# EAGLE library part TPA6135A2RTET (library 25cmsquare)
Stereo Headphone Amplifier
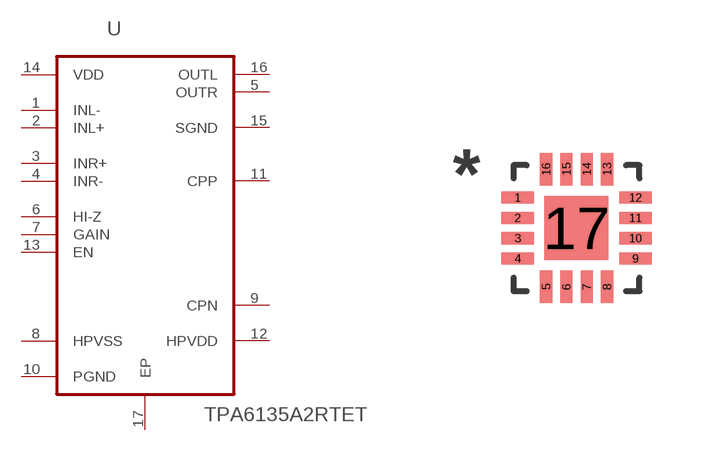
[diagram p21: symbol with the pads of QFN50P300X300X80-17N; footprint QFN50P300X300X80-17N]

Designator prefix U

## TPA6135A2RTET (MPN: TPA6135A2RTET; OC_FARNELL: 1710806; OC_NEWARK: 71P8446; PACKAGE: WQFN-16; SUPPLIER: Texas Instruments)  [QFN50P300X300X80-17N]
1  INL-  in
2  INL+  in
3  INR+  in
4  INR-  in
5  OUTR  out
6  HI-Z  in
7  GAIN  in
8  HPVSS  pwr
9  CPN  pwr
10  PGND  pas
11  CPP  pwr
12  HPVDD  pwr
13  EN  in
14  VDD  pwr
15  SGND  pas
16  OUTL  out
17  EP  pas

## Footprint QFN50P300X300X80-17N (pad centres in mm)
smd 0.813 x 0.305: 1 -1.473,0.762; 2 -1.473,0.254; 3 -1.473,-0.254; 4 -1.473,-0.762; 9 1.473,-0.762; 10 1.473,-0.254; 11 1.473,0.254; 12 1.473,0.762
smd 0.305 x 0.813: 5 -0.762,-1.473; 6 -0.254,-1.473; 7 0.254,-1.473; 8 0.762,-1.473; 13 0.762,1.473; 14 0.254,1.473; 15 -0.254,1.473; 16 -0.762,1.473
smd 1.6 x 1.6: 17 0,0